# Altium integrated library Logic Gates.IntLib: 15 symbols (part 1 of 2)
Pins are listed as number, name and electrical type; pins without a type are passive.

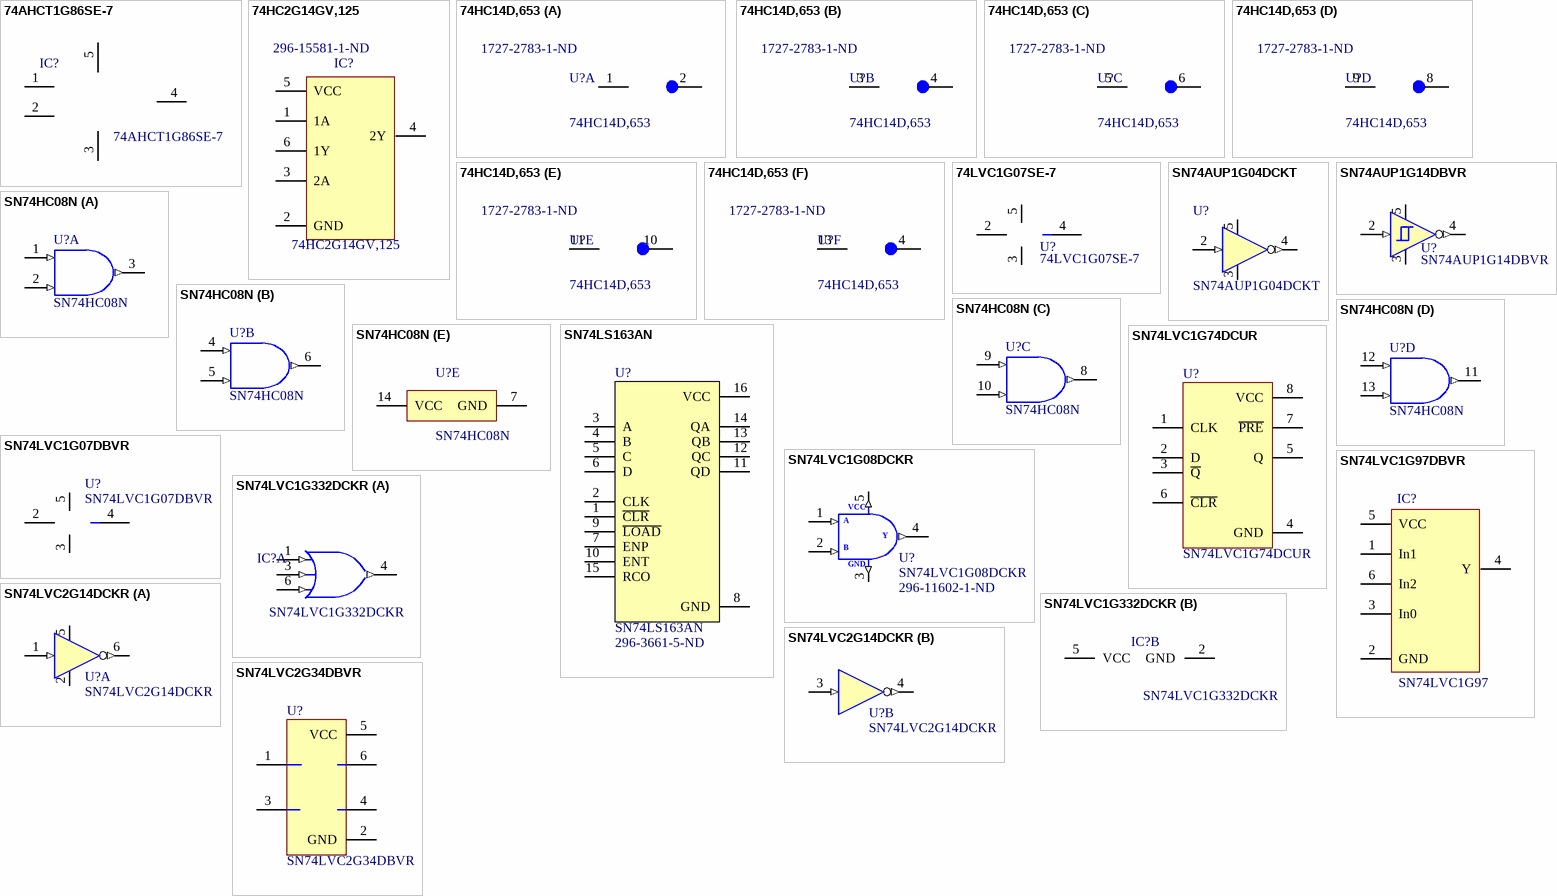
[diagram p0: symbols 74AHCT1G86SE-7 to SN74LVC2G34DBVR]

## 74AHCT1G86SE-7
designator IC?
IC GATE XOR 1CH 2-INP SOT-353; Manufacturer: Diodes Incorporated; Logic Type: XOR (Exclusive OR); Number of Circuits: 1; Number of Inputs: 2; Voltage - Supply: 4.5 V ~ 5.5 V; Current - Quiescent (Max): 1µA; Current - Output High, Low: 8mA, 8mA; Logic Level - Low: 0.8V; Logic Level - High: 2V; Max Propagation Delay @ V, Max CL: 7.9ns @ 5V, 50pF; Supplier 1: Digi-Key; Supplier Part Number 1: 74AHCT1G86SE-7DICT-ND; Manufacturer Part Number: 74AHCT1G86SE-7; RoHS: RoHS Compliant; Category: Integrated Circuits (ICs); Stock 1: 3689; Pricing 1: 1=0.25, 10=0.205, 100=0.1086, 500=0.07142, 1000=0.04866 (USD); Packaging: Cut Tape (CT); Features: -; Operating Temperature: -40°C ~ 125°C; Mounting Type: Surface Mount; Supplier Device Package: SOT-353; Package / Case: 5-TSSOP, SC-70-5, SOT-353; ComponentLink1URL: http://www.diodes.com/_files/datasheets/74AHCT1G86.pdf; ComponentLink1Description: http://www.diodes.com/_files/datasheets/74AHCT1G86.pdf; Value: 74AHCT1G86SE-7
footprint SOT65P197X110-5N (SOT23, 5-Leads, Body 2,00x1,97mm, Pitch 0,65mm, IPC Medium Density)
pins: 1 A, 2 B, 3 GND, 4 Y, 5 VCC

## 74HC2G14GV,125
designator IC?  Supplier Part Number 2: 296-15581-1-ND
IC INVERTER SCHMITT 2CH 6TSOP; Manufacturer: Nexperia; Min Supply Voltage: 1.65V; Max Supply Voltage: 5.5V; Logic Function: Multi Function; Quiescent Current: 10uA; Number of Inputs: 3; Propagation Delay: 6.3ns; Number of Circuits: 1; High Level Output Current: -32mA; Low Level Output Current: 32mA; Number of Input Lines: 2; Schmitt Trigger Input: Yes; Turn-On Delay Time: 6.1ns; Operating Supply Voltage: 5V; Supplier 1: Digi-Key; Manufacturer Part Number: 74HC2G14GV,125; Stock 1: 52335; Pricing 1: 1 = 0,37000, 10 = 0,29800, 25 = 0,27240, 100 = 0,20270, 250 = 0,18372, 500 = 0,15204, 1000 = 0,11403 (USD); RoHS: No; ComponentLink1URL: https://assets.nexperia.com/documents/data-sheet/74HC_HCT2G14.pdf?src-supplier=Digi-Key; ComponentLink1Description: https://assets.nexperia.com/documents/data-sheet/74HC_HCT2G14.pdf?src-supplier=Digi-Key; Supplier Part Number 1: 1727-6046-1-ND; Supplier 2: Digi-Key; Stock 2: 53949; Pricing 2: 1 = 0,38000, 10 = 0,28300, 100 = 0,17610, 500 = 0,12052, 1000 = 0,09270 (USD); Mount: Surface Mount; Case/Package: SOT-23; Number of Pins: 6; Weight: 0.000229oz; Contact Plating: Gold; Min Operating Temperature: -40°C; Max Operating Temperature: 125°C; Packaging: Tape and Reel; Package Quantity: 3000; Number of Gates: 1; Number of Output Lines: 1; Number of Bits: 1; Number of Outputs: 1; Number of Elements: 1; Output Current: 32mA; Max Output Current: 32mA; Termination: SMD/SMT; Length: 2.9mm; Height: 1.15mm; Width: 1.6mm; Radiation Hardening: No; Lead Free: Lead Free; REACH SVHC: No SVHC; ComponentLink2URL: https://datasheet.ciiva.com/34303/2017130-34303874.pdf?src-supplier=Jameco; ComponentLink2Description: https://datasheet.ciiva.com/34303/2017130-34303874.pdf?src-supplier=Jameco; ComponentLink3URL: https://datasheet.ciiva.com/6124/1768118-6124640.pdf?src-supplier=Farnell; ComponentLink3Description: https://datasheet.ciiva.com/6124/1768118-6124640.pdf?src-supplier=Farnell; ComponentLink4URL: https://datasheet.ciiva.com/1880/sn74lvc1g97-1880068.pdf?src-supplier=Digi-Key; ComponentLink4Description: https://datasheet.ciiva.com/1880/sn74lvc1g97-1880068.pdf?src-supplier=Digi-Key; ComponentLink5URL: https://datasheet.ciiva.com/1880/sn74lvc1g97-1880069.pdf?src-supplier=Digi-Key; ComponentLink5Description: https://datasheet.ciiva.com/1880/sn74lvc1g97-1880069.pdf?src-supplier=Digi-Key; ComponentLink6URL: https://datasheet.ciiva.com/7783/1768118-7783605.pdf?src-supplier=Element14; ComponentLink6Description: https://datasheet.ciiva.com/7783/1768118-7783605.pdf?src-supplier=Element14; ComponentLink7URL: https://datasheet.ciiva.com/46398/1885873-46398039.pdf?src-supplier=Element14; ComponentLink7Description: https://datasheet.ciiva.com/46398/1885873-46398039.pdf?src-supplier=Element14; ComponentLink8URL: https://datasheet.ciiva.com/26046/sn74lvc1g97-26046888.pdf?src-supplier=Avnet+Europe; ComponentLink8Description: https://datasheet.ciiva.com/26046/sn74lvc1g97-26046888.pdf?src-supplier=Avnet+Europe; ComponentLink9URL: https://datasheet.ciiva.com/1880/sn74lvc1g97-1880067.pdf?src-supplier=Digi-Key; ComponentLink9Description: https://datasheet.ciiva.com/1880/sn74lvc1g97-1880067.pdf?src-supplier=Digi-Key; ComponentLink10URL: https://datasheet.ciiva.com/7783/1768118-7783606.pdf?src-supplier=Element14; ComponentLink10Description: https://datasheet.ciiva.com/7783/1768118-7783606.pdf?src-supplier=Element14; ComponentLink11URL: https://datasheet.ciiva.com/46395/1885873-46395383.pdf?src-supplier=Element14; ComponentLink11Description: https://datasheet.ciiva.com/46395/1885873-46395383.pdf?src-supplier=Element14; ComponentLink12URL: https://datasheet.ciiva.com/14290/sn74lvc1g97-14290813.pdf?src-supplier=Avnet; ComponentLink12Description: https://datasheet.ciiva.com/14290/sn74lvc1g97-14290813.pdf?src-supplier=Avnet; ComponentLink13URL: https://datasheet.ciiva.com/48702/001075111-da-01-en-ic-config-m-sn74lvc1g97dbvr-sot-23-6-tid-48702378.pdf?src-supplier=Conrad; ComponentLink13Description: https://datasheet.ciiva.com/48702/001075111-da-01-en-ic-config-m-sn74lvc1g97dbvr-sot-23-6-tid-48702378.pdf?src-supplier=Conrad
footprint *SOT95P275X110-6N
pins: 1 1A, 2 GND, 3 2A, 4 2Y, 5 VCC, 6 1Y

## 74HC14D,653
designator U?  Supplier Part Number 1: 1727-2783-1-ND
IC INVERTER SCHMITT 6CH 14SO; Manufacturer: Nexperia; Supplier 1: Digi-Key; Manufacturer Part Number: 74HC14D,653; Stock 1: 130240; Pricing 1: 1 = 0,39000, 10 = 0,29600, 25 = 0,26680, 100 = 0,18430, 250 = 0,15516, 500 = 0,12608, 1000 = 0,09698 (USD); RoHS: No; ComponentLink1URL: http://www.farnell.com/datasheets/2000343.pdf?src-supplier=Farnell; ComponentLink1Description: http://www.farnell.com/datasheets/2000343.pdf?src-supplier=Farnell; ComponentLink2URL: https://assets.nexperia.com/documents/data-sheet/74HC_HCT14.pdf?src-supplier=Digi-Key; ComponentLink2Description: https://assets.nexperia.com/documents/data-sheet/74HC_HCT14.pdf?src-supplier=Digi-Key; ComponentLink3URL: http://www.farnell.com/datasheets/2000343.pdf?src-supplier=Newark; ComponentLink3Description: http://www.farnell.com/datasheets/2000343.pdf?src-supplier=Newark
part A pins: 1 A, 2 A
part B pins: 3 B, 4 B
part C pins: 5 C, 6 C
part D pins: 8 D, 9 D
part E pins: 10 E, 11 E
part F pins: 4 B, 13 B

## 74LVC1G07SE-7
designator U?
74LVC Series 5.5 V Surface Mount Single Buffer with Open Drain Output - SOT-353; Manufacturer: Diodes; Number of Gates: 1; Max Supply Voltage: 5.5V; Min Supply Voltage: 1.65V; Propagation Delay: 3ns; Logic Function: Buffer,Inverting; Polarity: Inverting,Non-Inverting; Low Level Output Current: 32mA; Operating Supply Current: 10uA; Turn-On Delay Time: 8.5ns; Quiescent Current: 200uA; Supplier: Digikey; Supplier Part Number: 74LVC1G07SE-7DICT-ND; Manufacturer Part Number: 74LVC1G07SE-7; RoHS: Yes; Category: Logic Gates; Stock: 31141; Pricing: 1=0,28, 10=0,228, 25=0,1908, 100=0,1209, 250=0,09332, 500=0,07954, 1000=0,05409 (USD); Mounting Technology: Surface Mount; Case/Package: SOT-353; Pins: 5; Min Operating Temperature: -40°C; Max Operating Temperature: 85°C; Number of Inputs: 1; Packaging: Tape and Reel; Package Quantity: 3000; Number of Elements: 1; Number of Channels: 1; Number of Outputs: 1; Number of Input Lines: 1; Number of Output Lines: 1; Number of Bits per Element: 1; Series: 74LVC; Technology: CMOS; Length: 2.2mm; Width: 1.35mm; Height: 1mm; Radiation Hardening: No; Reach SVHC Compliant: No; Lead Free: Lead Free; RoHS Compliant: Yes; ComponentLink1URL: https://datasheet.ciiva.com/8260/74lvc1g07-8260976.pdf?src-supplier=Avnet; ComponentLink1Description: https://datasheet.ciiva.com/8260/74lvc1g07-8260976.pdf?src-supplier=Avnet; ComponentLink2URL: https://datasheet.ciiva.com/26856/getdatasheetpartid-302086-26856250.pdf?src-supplier=Verical; ComponentLink2Description: https://datasheet.ciiva.com/26856/getdatasheetpartid-302086-26856250.pdf?src-supplier=Verical; ComponentLink3URL: https://datasheet.ciiva.com/8305/74lvc1g07-8305775.pdf?src-supplier=Avnet; ComponentLink3Description: https://datasheet.ciiva.com/8305/74lvc1g07-8305775.pdf?src-supplier=Avnet; ComponentLink4URL: https://datasheet.ciiva.com/1506/74lvc1g07-1506202.pdf?src-supplier=Element14; ComponentLink4Description: https://datasheet.ciiva.com/1506/74lvc1g07-1506202.pdf?src-supplier=Element14; ComponentLink5URL: https://datasheet.ciiva.com/1832/74lvc1g07-1832566.pdf?src-supplier=Digikey; ComponentLink5Description: https://datasheet.ciiva.com/1832/74lvc1g07-1832566.pdf?src-supplier=Digikey; ComponentLink6URL: https://datasheet.ciiva.com/1832/74lvc1g07-1832567.pdf?src-supplier=Digikey; ComponentLink6Description: https://datasheet.ciiva.com/1832/74lvc1g07-1832567.pdf?src-supplier=Digikey; ComponentLink7URL: https://datasheet.ciiva.com/1832/74lvc1g07-1832568.pdf?src-supplier=Digikey; ComponentLink7Description: https://datasheet.ciiva.com/1832/74lvc1g07-1832568.pdf?src-supplier=Digikey
footprint SOT65P210X100-5N (SOT23, 5-Leads, Body 2,00x2,10mm, Pitch 0,65mm, IPC Medium Density)
pins: 2 A, 3 A, 4 A, 5 A

## SN74AUP1G04DCKT
designator U?
IC INVERTER 1CH 1-INP SC70-5; Manufacturer 1: Texas Instruments; Output Current: 4mA; Number of Inputs: 1; Min Supply Voltage: 800mV; Max Supply Voltage: 3.6V; Logic Function: Buffer,Inverter; Propagation Delay: 19ns; Quiescent Current: 500nA; High Level Output Current: -4mA; Turn-On Delay Time: 5.4ns; Schmitt Trigger Input: No; Supplier 1: Digi-Key; Manufacturer Part Number 1: SN74AUP1G04DCKT; Stock 1: 1210; Pricing 1: 1=0,84000, 10=0,73900, 25=0,69440, 100=0,56670 (USD); RoHS: Yes; Mount: Surface Mount; Case/Package: SC; Number of Pins: 5; Weight: 8.8E-05oz; Min Operating Temperature: -40°C; Max Operating Temperature: 85°C; Max Output Current: 4mA; Packaging: Tape and Reel; Number of Elements: 1; Package Quantity: 1; Number of Circuits: 1; Low Level Output Current: 4mA; Termination: SMD/SMT; Number of Gates: 1; Number of Bits: 1; Length: 2mm; Height: 0.9mm; Width: 1.25mm; Radiation Hardening: No; REACH SVHC: No SVHC; Lead Free: Lead Free; ComponentLink1URL: https://datasheet.ciiva.com/4219/1085sn74aup1g04-4219910.pdf?src-supplier=Arrow; ComponentLink1Description: https://datasheet.ciiva.com/4219/1085sn74aup1g04-4219910.pdf?src-supplier=Arrow; ComponentLink2URL: https://datasheet.ciiva.com/15088/getdatasheetpartid-29642-15088984.pdf?src-supplier=Verical; ComponentLink2Description: https://datasheet.ciiva.com/15088/getdatasheetpartid-29642-15088984.pdf?src-supplier=Verical; ComponentLink3URL: https://datasheet.ciiva.com/41457/001016492-da-01-en-ic-sgl-lp-sn74-sn74aup1g04dckt-sot-5-tid-41457121.pdf?src-supplier=Conrad; ComponentLink3Description: https://datasheet.ciiva.com/41457/001016492-da-01-en-ic-sgl-lp-sn74-sn74aup1g04dckt-sot-5-tid-41457121.pdf?src-supplier=Conrad; ComponentLink4URL: https://datasheet.ciiva.com/14288/sn74aup1g04-14288794.pdf?src-supplier=Avnet; ComponentLink4Description: https://datasheet.ciiva.com/14288/sn74aup1g04-14288794.pdf?src-supplier=Avnet; ComponentLink5URL: https://datasheet.ciiva.com/7783/1722694-7783277.pdf?src-supplier=Element14; ComponentLink5Description: https://datasheet.ciiva.com/7783/1722694-7783277.pdf?src-supplier=Element14; ComponentLink6URL: https://datasheet.ciiva.com/7783/1722694-7783278.pdf?src-supplier=Element14; ComponentLink6Description: https://datasheet.ciiva.com/7783/1722694-7783278.pdf?src-supplier=Element14; ComponentLink7URL: https://datasheet.ciiva.com/6619/sn74aup1g04-6619743.pdf?src-supplier=Digi-Key; ComponentLink7Description: https://datasheet.ciiva.com/6619/sn74aup1g04-6619743.pdf?src-supplier=Digi-Key; Value: SN74AUP1G04DCKT; Supplier Part Number 1: 296-32254-1-ND
footprint SC70-5
pins: 2 A (in), 3 GND, 4 Y (out), 5 VCC

## SN74AUP1G14DBVR
designator U?
Single 0.8-V to 3.6-V low power inverter with Schmitt-Trigger inputs 5-SOT-23 -40 to 85; Manufacturer: Texas Instruments; Number of Elements: 1; Propagation Delay: 20.5ns; Max Supply Voltage: 3.6V; Min Supply Voltage: 800mV; Output Current: 4mA; Logic Function: Buffer,Inverter,Schmitt Trigger; Quiescent Current: 500nA; High Level Output Current: -4mA; Turn-On Delay Time: 6.2ns; Input Type: SCHMITT TRIGGER; Supplier: Digikey; Supplier Part Number: 296-18213-1-ND; Manufacturer Part Number: SN74AUP1G14DBVR; RoHS: Yes; Category: Logic Gates; Stock: 16290; Pricing: 1=0,2, 10=0,135, 25=0,1188, 100=0,1011, 250=0,09268, 500=0,08764, 1000=0,08348 (USD); Mounting Technology: Surface Mount; Case/Package: SOT-23; Pins: 5; Weight: 0.000395oz; Min Operating Temperature: -40°C; Max Operating Temperature: 85°C; Package Quantity: 1; Number of Inputs: 1; Packaging: Tape and Reel; Number of Circuits: 1; Low Level Output Current: 4mA; Number of Gates: 1; Number of Bits: 1; Series: 74AUP; Technology: CMOS; Radiation Hardening: No; Reach SVHC Compliant: No; Lead Free: Lead Free; RoHS Compliant: Yes; ComponentLink1URL: https://datasheet.ciiva.com/1864/sn74aup1g14-1864808.pdf?src-supplier=Digikey; ComponentLink1Description: https://datasheet.ciiva.com/1864/sn74aup1g14-1864808.pdf?src-supplier=Digikey; ComponentLink2URL: https://datasheet.ciiva.com/1864/sn74aup1g14-1864809.pdf?src-supplier=Digikey; ComponentLink2Description: https://datasheet.ciiva.com/1864/sn74aup1g14-1864809.pdf?src-supplier=Digikey; ComponentLink3URL: https://datasheet.ciiva.com/1864/sn74aup1g14-1864810.pdf?src-supplier=Digikey; ComponentLink3Description: https://datasheet.ciiva.com/1864/sn74aup1g14-1864810.pdf?src-supplier=Digikey; ComponentLink4URL: https://datasheet.ciiva.com/14290/sn74aup1g14-14290342.pdf?src-supplier=Avnet; ComponentLink4Description: https://datasheet.ciiva.com/14290/sn74aup1g14-14290342.pdf?src-supplier=Avnet; ComponentLink5URL: https://datasheet.ciiva.com/48702/001073349-da-01-en-ic-sngl-sch-sn74aup1g14dbvr-sot-23-5-tid-48702901.pdf?src-supplier=Conrad; ComponentLink5Description: https://datasheet.ciiva.com/48702/001073349-da-01-en-ic-sngl-sch-sn74aup1g14dbvr-sot-23-5-tid-48702901.pdf?src-supplier=Conrad
footprint SOT95P280X145-5N (SOT23, 5-Leads, Body 2,90x2,80mm, Pitch 0,95mm, IPC Medium Density)
pins: 2 A (in), 3 GND, 4 Y (out), 5 VCC

## SN74HC08N
designator U?
TEXAS INSTRUMENTS - SN74HC08N - IC, QUAD 2-INPUT AND, 74HC08, DIP14; Number of Bits: 4; Schmitt Trigger Input: No; Number of Input Lines: 2; Number of Output Lines: 1; Low Level Output Current: 5.2mA; Quiescent Current: 2uA; High Level Output Current: -5.2mA; Turn-On Delay Time: 21ns; Operating Supply Voltage: 5V; Max Supply Voltage: 6V; Min Supply Voltage: 2V; Max Output Current: 4mA; Supplier 1: Digi-Key; Manufacturer 1: Texas Instruments; Manufacturer Part Number 1: SN74HC08N; RoHS: Yes; Category: Logic Gates; Stock 1: 5266; Pricing 1: 1=0,39000, 10=0,33800, 25=0,31520, 100=0,25200, 250=0,23400, 500=0,19800, 1000=0,15300, 2500=0,13950, 5000=0,13050 (USD); Mount: Through Hole; Case/Package: PDIP; Number of Pins: 14; Weight: 0.032734oz; Contact Plating: Gold; Min Operating Temperature: -40°C; Max Operating Temperature: 85°C; Number of Gates: 4; Number of Circuits: 4; Propagation Delay: 21ns; Packaging: Rail/Tube; Number of Outputs: 1; Output Current: 5.2mA; Number of Inputs: 2; Logic Function: AND; Number of Elements: 4; Package Quantity: 25; Length: 19.3mm; Height: 4.57mm; Width: 6.35mm; Radiation Hardening: No; REACH SVHC: No SVHC; Lead Free: Lead Free; ComponentLink1URL: https://datasheet.ciiva.com/26048/sn54hc08-sp-26048288.pdf?src-supplier=Avnet+Europe; ComponentLink1Description: https://datasheet.ciiva.com/26048/sn54hc08-sp-26048288.pdf?src-supplier=Avnet+Europe; ComponentLink2URL: https://datasheet.ciiva.com/41457/001016637-da-01-en-ic-qua-2in-and-g-s-sn74hc08n-pdip-14-tid-41457005.pdf?src-supplier=Conrad; ComponentLink2Description: https://datasheet.ciiva.com/41457/001016637-da-01-en-ic-qua-2in-and-g-s-sn74hc08n-pdip-14-tid-41457005.pdf?src-supplier=Conrad; ComponentLink3URL: https://datasheet.ciiva.com/1865/sn74hc08-1865974.pdf?src-supplier=Digi-Key; ComponentLink3Description: https://datasheet.ciiva.com/1865/sn74hc08-1865974.pdf?src-supplier=Digi-Key; ComponentLink4URL: https://datasheet.ciiva.com/14290/sn54hc08-sp-14290524.pdf?src-supplier=Avnet; ComponentLink4Description: https://datasheet.ciiva.com/14290/sn54hc08-sp-14290524.pdf?src-supplier=Avnet; Value: SN74HC08N; Supplier Part Number 1: 296-1570-5-ND
footprint D14D (DIP, 14-Pin, Row Spacing 7.62 mm, Pitch 2.54 mm)
part A pins: 1 1A (in), 2 1B (in), 3 1Y (out)
part B pins: 4 2A (in), 5 2B (in), 6 2Y (out)
part C pins: 8 3Y (out), 9 3A (in), 10 3B (in)
part D pins: 11 4Y (out), 12 4A (in), 13 4B (in)
part E pins: 7 GND, 14 VCC

## SN74LS163AN
designator U?  Supplier Part Number 1: 296-3661-5-ND
Counter; N Package; PDIP; 7 V; 18 mA (Typ.); 2 V; 0.8 V; 3.4 V (Typ.); Manufacturer: Texas Instruments; Number of Bits: 4; Frequency: 32MHz; Nominal Supply Current: 18mA; Operating Supply Voltage: 5V; Propagation Delay: 35ns; Min Supply Voltage: 4.75V; Max Supply Voltage: 5.25V; Number of Elements: 1; Direction: Up,Unidirectional; Reset: Synchronous; Clock Edge Trigger Type: Positive Edge; Supplier 1: Digi-Key; Manufacturer Part Number: SN74LS163AN; RoHS: Yes; Category: Counters; Stock 1: 2261; Pricing 1: 1=0,9, 10=0,79, 25=0,7416, 100=0,6053, 250=0,56224, 500=0,4785, 1000=0,3828, 2500=0,34691, 5000=0,32299 (USD); Mount: Through Hole; Case/Package: PDIP; Number of Pins: 16; Weight: 0.03357oz; Min Operating Temperature: 0°C; Max Operating Temperature: 70°C; Packaging: Rail/Tube; Package Quantity: 25; Number of Bits per Element: 4; Logic Function: Counter; Turn-On Delay Time: 35ns; Sync/Async: Synchronous; Series: 74LS; Technology: BIPOLAR; Radiation Hardening: No; Reach SVHC Compliant: No; Lead Free: Contains Lead; RoHS Compliant: Yes; ComponentLink1URL: https://datasheet.ciiva.com/14134/ky645656-14134031.pdf?src-supplier=Distrelec; ComponentLink1Description: https://datasheet.ciiva.com/14134/ky645656-14134031.pdf?src-supplier=Distrelec; ComponentLink2URL: https://datasheet.ciiva.com/1621/sn74ls161a-1621901.pdf?src-supplier=Newark; ComponentLink2Description: https://datasheet.ciiva.com/1621/sn74ls161a-1621901.pdf?src-supplier=Newark; ComponentLink3URL: https://datasheet.ciiva.com/15093/getdatasheetpartid-251218-15093660.pdf?src-supplier=Verical; ComponentLink3Description: https://datasheet.ciiva.com/15093/getdatasheetpartid-251218-15093660.pdf?src-supplier=Verical; ComponentLink4URL: https://datasheet.ciiva.com/29296/169587-da-01-en-ic-sn-74-ls-163-an-dip16-tid-29296910.pdf?src-supplier=Conrad; ComponentLink4Description: https://datasheet.ciiva.com/29296/169587-da-01-en-ic-sn-74-ls-163-an-dip16-tid-29296910.pdf?src-supplier=Conrad; ComponentLink5URL: https://datasheet.ciiva.com/1507/1764235-1507035.pdf?src-supplier=Element14; ComponentLink5Description: https://datasheet.ciiva.com/1507/1764235-1507035.pdf?src-supplier=Element14; ComponentLink6URL: https://datasheet.ciiva.com/1848/sn74ls163a-1848888.pdf?src-supplier=Digi-Key; ComponentLink6Description: https://datasheet.ciiva.com/1848/sn74ls163a-1848888.pdf?src-supplier=Digi-Key
footprint TI-N16 (DIP, 16-Leads, Body 19.305x6.35 mm, Pitch 2.54 mm)
pins: 1 ~{CLR}, 2 CLK, 3 A, 4 B, 5 C, 6 D, 7 ENP, 8 GND, 9 ~{LOAD}, 10 ENT, 11 QD, 12 QC, 13 QB, 14 QA, 15 RCO, 16 VCC

## SN74LVC1G07DBVR
designator U?
Single 1.65-V to 5.5-V buffer with open-drain outputs 5-SOT-23 -40 to 125; Manufacturer: Texas Instruments; Manufacturer Lifecycle Status: ACTIVE; High Level Output Current: 32mA; Logic Function: Buffer, Inverting; Max Junction Temperature (Tj): 150°C; Max Supply Voltage: 5.5V; Min Supply Voltage: 1.65V; Number of Bits: 1; Polarity: Non-Inverting; Propagation Delay: 8.3ns; Quiescent Current: 10µA; Schmitt Trigger Input: No; Supplier: DigiKey; Supplier Part Number: 296-8485-1-ND; Manufacturer Part Number: SN74LVC1G07DBVR; RoHS: Compliant; Category: Buffers, Drivers and Transceivers; Stock: 98921; Pricing: 1=0,12, 10=0,082, 25=0,0716, 100=0,0602, 250=0,05484, 500=0,05162, 1000=0,04896 (USD); Case/Package: SOT-23; Contact Plating: Tin; Height: 1.45mm; Lead Free: Lead Free; Length: 2.9mm; Lifecycle Status: Production; Low Level Output Current: 32mA; Max Operating Temperature: 125°C; Min Operating Temperature: -40°C; Mounting Technology: Surface Mount; Nominal Supply Current: 32mA; Number of Bits per Element: 1; Number of Channels: 1; Number of Elements: 1; Number of Gates: 1; Number of Input Lines: 1; Number of Inputs: 1; Number of Output Lines: 1; Number of Outputs: 1; Pins: 5; Packaging: Cut Tape; Radiation Hardening: No; REACH SVHC: No; Schedule B: 8542390000, 8542390000|8542390000|8542390000|8542390000|8542390000; Termination: SMD/SMT; Thickness: 1.2mm; Turn-On Delay Time: 8.3ns; Width: 1.6mm; ComponentLink1URL: https://sigma.octopart.com:443/177332311/technical_drawing/Texas-Instruments-SN74LVC1G07DBVR.pdf?src-supplier=Texas+Instruments; ComponentLink1Description: https://sigma.octopart.com:443/177332311/technical_drawing/Texas-Instruments-SN74LVC1G07DBVR.pdf?src-supplier=Texas+Instruments; ComponentLink2URL: https://octopart.com:443/opatz8j6/c1?t=j2kUoeLgu9yt2wK_HxpTl6wRyETCEuyr-RdCfZyL8rgkl96Gszv8zdI8mwJ-EdrGq_m3hSeoitGL-Nw7vjxPcxGeR3icOQy-4Smj2QV9Z0DcXfEpwE3DZNExeJFqc1mG9Z2r_YoGJBF-YwyjYdTv9x5DWbrNimWNHu7aqtkRVsPdcyUYZHr4DTlqV7vswsSsjbNoGN1o5_kx4PbbdndBDR2cCu-fD58ja7DGm9VlvCzz_6bEq8sImpUwaYhTZYSRX-v9ceyqyTtGp_tnfHgr4GsJHC77qYMa9ep-roUMGhtQKXh2aDB5PKDdtP9Lmw31p9nXq5Gg06zu-7rs9ivFpX-u5LR7BgjyfGpnr-OUBaeSqRT8h_lRHPljZ6fXBopCFx_5tnv1Pg&src-supplier=Texas+Instruments; ComponentLink2Description: https://octopart.com:443/opatz8j6/c1?t=j2kUoeLgu9yt2wK_HxpTl6wRyETCEuyr-RdCfZyL8rgkl96Gszv8zdI8mwJ-EdrGq_m3hSeoitGL-Nw7vjxPcxGeR3icOQy-4Smj2QV9Z0DcXfEpwE3DZNExeJFqc1mG9Z2r_YoGJBF-YwyjYdTv9x5DWbrNimWNHu7aqtkRVsPdcyUYZHr4DTlqV7vswsSsjbNoGN1o5_kx4PbbdndBDR2cCu-fD58ja7DGm9VlvCzz_6bEq8sImpUwaYhTZYSRX-v9ceyqyTtGp_tnfHgr4GsJHC77qYMa9ep-roUMGhtQKXh2aDB5PKDdtP9Lmw31p9nXq5Gg06zu-7rs9ivFpX-u5LR7BgjyfGpnr-OUBaeSqRT8h_lRHPljZ6fXBopCFx_5tnv1Pg&src-supplier=Texas+Instruments; ComponentLink3URL: https://sigma.octopart.com:443/175570406/technical_drawing/Texas-Instruments-SN74LVC1G07DBVR.pdf?src-supplier=Texas+Instruments; ComponentLink3Description: https://sigma.octopart.com:443/175570406/technical_drawing/Texas-Instruments-SN74LVC1G07DBVR.pdf?src-supplier=Texas+Instruments; ComponentLink4URL: https://sigma.octopart.com:443/169406034/technical_drawing/Texas-Instruments-SN74LVC1G07DBVR.pdf?src-supplier=Texas+Instruments; ComponentLink4Description: https://sigma.octopart.com:443/169406034/technical_drawing/Texas-Instruments-SN74LVC1G07DBVR.pdf?src-supplier=Texas+Instruments; ComponentLink5URL: https://sigma.octopart.com:443/155939316/technical_drawing/Texas-Instruments-SN74LVC1G07DBVR.pdf?src-supplier=Texas+Instruments; ComponentLink5Description: https://sigma.octopart.com:443/155939316/technical_drawing/Texas-Instruments-SN74LVC1G07DBVR.pdf?src-supplier=Texas+Instruments; ComponentLink6URL: https://sigma.octopart.com:443/102331370/technical_drawing/Texas-Instruments-SN74LVC1G07DBVR.pdf?src-supplier=Texas+Instruments; ComponentLink6Description: https://sigma.octopart.com:443/102331370/technical_drawing/Texas-Instruments-SN74LVC1G07DBVR.pdf?src-supplier=Texas+Instruments; ComponentLink7URL: https://sigma.octopart.com:443/49249325/technical_drawing/Texas-Instruments-SN74LVC1G07DBVR.pdf?src-supplier=Texas+Instruments; ComponentLink7Description: https://sigma.octopart.com:443/49249325/technical_drawing/Texas-Instruments-SN74LVC1G07DBVR.pdf?src-supplier=Texas+Instruments; ComponentLink8URL: https://datasheet.octopart.com:443/SN74LVC1G07DBVR-Texas-Instruments-datasheet-25356048.pdf?src-supplier=Texas+Instruments; ComponentLink8Description: https://datasheet.octopart.com:443/SN74LVC1G07DBVR-Texas-Instruments-datasheet-25356048.pdf?src-supplier=Texas+Instruments; ComponentLink9URL: https://datasheet.octopart.com:443/SN74LVC1G07DBVR-Texas-Instruments-datasheet-24565342.pdf?src-supplier=Texas+Instruments; ComponentLink9Description: https://datasheet.octopart.com:443/SN74LVC1G07DBVR-Texas-Instruments-datasheet-24565342.pdf?src-supplier=Texas+Instruments; ComponentLink10URL: https://datasheet.octopart.com:443/SN74LVC1G07DBVR-Texas-Instruments-datasheet-16941355.pdf?src-supplier=Texas+Instruments; ComponentLink10Description: https://datasheet.octopart.com:443/SN74LVC1G07DBVR-Texas-Instruments-datasheet-16941355.pdf?src-supplier=Texas+Instruments; ComponentLink11URL: https://datasheet.octopart.com:443/SN74LVC1G07DBVR-Texas-Instruments-datasheet-13040538.pdf?src-supplier=Texas+Instruments; ComponentLink11Description: https://datasheet.octopart.com:443/SN74LVC1G07DBVR-Texas-Instruments-datasheet-13040538.pdf?src-supplier=Texas+Instruments; ComponentLink12URL: https://datasheet.octopart.com:443/SN74LVC1G07DBVR-Texas-Instruments-datasheet-10899237.pdf?src-supplier=Texas+Instruments; ComponentLink12Description: https://datasheet.octopart.com:443/SN74LVC1G07DBVR-Texas-Instruments-datasheet-10899237.pdf?src-supplier=Texas+Instruments; ComponentLink13URL: https://datasheet.octopart.com:443/SN74LVC1G07DBVR-Texas-Instruments-datasheet-153181.pdf?src-supplier=Texas+Instruments; ComponentLink13Description: https://datasheet.octopart.com:443/SN74LVC1G07DBVR-Texas-Instruments-datasheet-153181.pdf?src-supplier=Texas+Instruments; ComponentLink14URL: https://datasheet.octopart.com:443/SN74LVC1G07DBVR-Texas-Instruments-datasheet-10852091.pdf?src-supplier=Upverter; ComponentLink14Description: https://datasheet.octopart.com:443/SN74LVC1G07DBVR-Texas-Instruments-datasheet-10852091.pdf?src-supplier=Upverter; ComponentLink15URL: https://datasheet.octopart.com:443/SN74LVC1G07DBVR-Texas-Instruments-datasheet-65713477.pdf?src-supplier=Farnell; ComponentLink15Description: https://datasheet.octopart.com:443/SN74LVC1G07DBVR-Texas-Instruments-datasheet-65713477.pdf?src-supplier=Farnell; ComponentLink16URL: https://datasheet.octopart.com:443/SN74LVC1G07DBVR-Texas-Instruments-datasheet-8500040.pdf?src-supplier=Farnell; ComponentLink16Description: https://datasheet.octopart.com:443/SN74LVC1G07DBVR-Texas-Instruments-datasheet-8500040.pdf?src-supplier=Farnell; ComponentLink17URL: https://datasheet.octopart.com:443/SN74LVC1G07DBVR-Texas-Instruments-datasheet-5328147.pdf?src-supplier=Farnell; ComponentLink17Description: https://datasheet.octopart.com:443/SN74LVC1G07DBVR-Texas-Instruments-datasheet-5328147.pdf?src-supplier=Farnell; ComponentLink18URL: https://datasheet.octopart.com:443/SN74LVC1G07DBVR.-Texas-Instruments-datasheet-37730384.pdf?src-supplier=Farnell; ComponentLink18Description: https://datasheet.octopart.com:443/SN74LVC1G07DBVR.-Texas-Instruments-datasheet-37730384.pdf?src-supplier=Farnell; ComponentLink19URL: https://datasheet.octopart.com:443/SN74LVC1G07DBVR.-Texas-Instruments-datasheet-62115996.pdf?src-supplier=Farnell; ComponentLink19Description: https://datasheet.octopart.com:443/SN74LVC1G07DBVR.-Texas-Instruments-datasheet-62115996.pdf?src-supplier=Farnell; ComponentLink20URL: https://datasheet.octopart.com:443/SN74LVC1G07DBVR-Texas-Instruments-datasheet-8639855.pdf?src-supplier=Farnell; ComponentLink20Description: https://datasheet.octopart.com:443/SN74LVC1G07DBVR-Texas-Instruments-datasheet-8639855.pdf?src-supplier=Farnell; ComponentLink21URL: https://datasheet.octopart.com:443/SN74LVC1G07DBVR-Texas-Instruments-datasheet-7542397.pdf?src-supplier=Farnell; ComponentLink21Description: https://datasheet.octopart.com:443/SN74LVC1G07DBVR-Texas-Instruments-datasheet-7542397.pdf?src-supplier=Farnell; ComponentLink22URL: https://datasheet.octopart.com:443/SN74LVC1G07DBVR-Texas-Instruments-datasheet-5391920.pdf?src-supplier=Farnell; ComponentLink22Description: https://datasheet.octopart.com:443/SN74LVC1G07DBVR-Texas-Instruments-datasheet-5391920.pdf?src-supplier=Farnell; ComponentLink23URL: https://datasheet.octopart.com:443/SN74LVC1G07DBVR-Texas-Instruments-datasheet-509529.pdf?src-supplier=Farnell; ComponentLink23Description: https://datasheet.octopart.com:443/SN74LVC1G07DBVR-Texas-Instruments-datasheet-509529.pdf?src-supplier=Farnell; ComponentLink24URL: https://datasheet.octopart.com:443/SN74LVC1G07DBVR-Texas-Instruments-datasheet-33018797.pdf?src-supplier=element14+APAC; ComponentLink24Description: https://datasheet.octopart.com:443/SN74LVC1G07DBVR-Texas-Instruments-datasheet-33018797.pdf?src-supplier=element14+APAC; ComponentLink25URL: https://datasheet.octopart.com:443/SN74LVC1G07DBVR-Texas-Instruments-datasheet-33002.pdf?src-supplier=Sierra+IC; ComponentLink25Description: https://datasheet.octopart.com:443/SN74LVC1G07DBVR-Texas-Instruments-datasheet-33002.pdf?src-supplier=Sierra+IC; ComponentLink26URL: https://datasheet.octopart.com:443/SN74LVC1G07DBVR-Texas-Instruments-datasheet-165804489.pdf?src-supplier=LCSC; ComponentLink26Description: https://datasheet.octopart.com:443/SN74LVC1G07DBVR-Texas-Instruments-datasheet-165804489.pdf?src-supplier=LCSC; ComponentLink27URL: https://datasheet.octopart.com:443/SN74LVC1G07DBVR-Texas-Instruments-datasheet-159116621.pdf?src-supplier=LCSC; ComponentLink27Description: https://datasheet.octopart.com:443/SN74LVC1G07DBVR-Texas-Instruments-datasheet-159116621.pdf?src-supplier=LCSC; ComponentLink28URL: https://datasheet.octopart.com:443/SN74LVC1G07DBVR-Texas-Instruments-datasheet-164417647.pdf?src-supplier=SHENGYU+ELECTRONICS; ComponentLink28Description: https://datasheet.octopart.com:443/SN74LVC1G07DBVR-Texas-Instruments-datasheet-164417647.pdf?src-supplier=SHENGYU+ELECTRONICS; ComponentLink29URL: https://datasheet.octopart.com:443/SN74LVC1G07DBVR-Texas-Instruments-datasheet-137316104.pdf?src-supplier=Future+Electronics; ComponentLink29Description: https://datasheet.octopart.com:443/SN74LVC1G07DBVR-Texas-Instruments-datasheet-137316104.pdf?src-supplier=Future+Electronics; ComponentLink30URL: https://datasheet.octopart.com:443/SN74LVC1G07DBVR-Texas-Instruments-datasheet-37140337.pdf?src-supplier=Newark; ComponentLink30Description: https://datasheet.octopart.com:443/SN74LVC1G07DBVR-Texas-Instruments-datasheet-37140337.pdf?src-supplier=Newark; ComponentLink31URL: https://datasheet.octopart.com:443/SN74LVC1G07DBVR-Texas-Instruments-datasheet-43176.pdf?src-supplier=Newark; ComponentLink31Description: https://datasheet.octopart.com:443/SN74LVC1G07DBVR-Texas-Instruments-datasheet-43176.pdf?src-supplier=Newark; ComponentLink32URL: https://datasheet.octopart.com:443/SN74LVC1G07DBVR-Texas-Instruments-datasheet-14144452.pdf?src-supplier=iiiC; ComponentLink32Description: https://datasheet.octopart.com:443/SN74LVC1G07DBVR-Texas-Instruments-datasheet-14144452.pdf?src-supplier=iiiC; ComponentLink33URL: https://datasheet.octopart.com:443/SN74LVC1G07DBVR-Texas-Instruments-datasheet-153551.pdf?src-supplier=Mouser; ComponentLink33Description: https://datasheet.octopart.com:443/SN74LVC1G07DBVR-Texas-Instruments-datasheet-153551.pdf?src-supplier=Mouser; ComponentLink34URL: https://datasheet.octopart.com:443/SN74LVC1G07DBVR-Texas-Instruments-datasheet-8441500.pdf?src-supplier=Jameco; ComponentLink34Description: https://datasheet.octopart.com:443/SN74LVC1G07DBVR-Texas-Instruments-datasheet-8441500.pdf?src-supplier=Jameco; ComponentLink35URL: http://sigma.octopart.com:80/reach_statement/Texas-Instruments-company-64.pdf?src-supplier=Compliance+Statements; ComponentLink35Description: http://sigma.octopart.com:80/reach_statement/Texas-Instruments-company-64.pdf?src-supplier=Compliance+Statements; ComponentLink36URL: http://sigma.octopart.com:80/conflict_mineral_statement/Texas-Instruments-company-63.pdf?src-supplier=Compliance+Statements; ComponentLink36Description: http://sigma.octopart.com:80/conflict_mineral_statement/Texas-Instruments-company-63.pdf?src-supplier=Compliance+Statements
footprint SOT95P280X145-5N (SOT23, 5-Leads, Body 2,90x2,80mm, Pitch 0,95mm, IPC Medium Density)
pins: 2 A, 3 A, 4 A, 5 A

## SN74LVC1G08DCKR
designator U?  Supplier Part Number 1: 296-11602-1-ND
AND Gate IC 1 Channel  SC-70-5; Manufacturer: Texas Instruments; Min Supply Voltage: 1.65V; Max Supply Voltage: 5.5V; Propagation Delay: 4ns; Output Current: 32mA; Number of Inputs: 2; Number of Outputs: 1; Quiescent Current: 10uA; High Level Output Current: -32mA; Turn-On Delay Time: 4.5ns; Schmitt Trigger Input: No; Supplier 1: Digi-Key; Manufacturer Part Number: SN74LVC1G08DCKR; RoHS: Yes; Category: Logic Gates; Stock 1: 97038; Pricing 1: 1=0,35, 10=0,29, 25=0,2432, 100=0,1539, 250=0,1188, 500=0,10124, 1000=0,06885 (USD); Mount: Surface Mount; Case/Package: SC; Number of Pins: 5; Weight: 8.8E-05oz; Min Operating Temperature: -40°C; Max Operating Temperature: 125°C; Logic Function: AND GATE; Packaging: Tape and Reel; Max Output Current: 32mA; Number of Gates: 1; Number of Input Lines: 2; Number of Output Lines: 1; Low Level Output Current: 32mA; Number of Circuits: 1; Number of Elements: 1; Termination: SMD/SMT; Number of Bits: 1; Series: 74LVC; Technology: CMOS; Length: 2.15mm; Width: 1.4mm; Height: 1mm; Radiation Hardening: No; Reach SVHC Compliant: No; Lead Free: Lead Free; RoHS Compliant: Yes; ComponentLink1URL: https://datasheet.ciiva.com/28540/1772545-28540798.pdf?src-supplier=Element14; ComponentLink1Description: https://datasheet.ciiva.com/28540/1772545-28540798.pdf?src-supplier=Element14; ComponentLink2URL: https://datasheet.ciiva.com/1864/sn74lvc1g08-1864342.pdf?src-supplier=Digi-Key; ComponentLink2Description: https://datasheet.ciiva.com/1864/sn74lvc1g08-1864342.pdf?src-supplier=Digi-Key; ComponentLink3URL: https://datasheet.ciiva.com/1864/sn74lvc1g08-1864341.pdf?src-supplier=Digi-Key; ComponentLink3Description: https://datasheet.ciiva.com/1864/sn74lvc1g08-1864341.pdf?src-supplier=Digi-Key; ComponentLink4URL: https://datasheet.ciiva.com/1864/sn74lvc1g08-1864343.pdf?src-supplier=Digi-Key; ComponentLink4Description: https://datasheet.ciiva.com/1864/sn74lvc1g08-1864343.pdf?src-supplier=Digi-Key; ComponentLink5URL: https://datasheet.ciiva.com/14290/sn74lvc1g08-14290717.pdf?src-supplier=Avnet; ComponentLink5Description: https://datasheet.ciiva.com/14290/sn74lvc1g08-14290717.pdf?src-supplier=Avnet
footprint SOT65P210X110-5N (SOT23, 5-Leads, Body 2,00x2,10mm, Pitch 0,65mm, IPC Medium Density)
pins: 1 A (in), 2 B (in), 3 GND (out), 4 Y (out), 5 VCC (out)

## SN74LVC1G74DCUR
designator U?
Single Positive-Edge-Triggered D-Type Flip-Flop With Clear and Preset 8-VSSOP -40 to 125; Manufacturer: Texas Instruments; Propagation Delay: 14.4ns; Max Supply Voltage: 5.5V; Min Supply Voltage: 1.65V; Frequency: 200MHz; Output Current: 32mA; Clock Edge Trigger Type: Positive Edge; Logic Function: D-Type,Flip-Flop; Number of Elements: 1; Turn-On Delay Time: 1.6ns; High Level Output Current: -32mA; Polarity: Non-Inverting; Number of Gates: 2; Quiescent Current: 10uA; Input Capacitance: 5pF; Input Type: SINGLE-ENDED; Supplier: Digikey; Supplier Part Number: 296-25554-1-ND; Manufacturer Part Number: SN74LVC1G74DCUR; RoHS: Yes; Category: Latches and Flip Flops; Stock: 78191; Pricing: 1=0,58, 10=0,492, 25=0,4596, 100=0,3676, 250=0,34136, 500=0,28886, 1000=0,22321 (USD); Mounting Technology: Surface Mount; Case/Package: VSSOP; Pins: 8; Min Operating Temperature: -40°C; Max Operating Temperature: 125°C; Packaging: Tape and Reel; Package Quantity: 3000; Number of Bits per Element: 1; Low Level Output Current: 32mA; Number of Circuits: 1; Number of Bits: 1; Series: 74LVC; Technology: CMOS; Radiation Hardening: No; Reach SVHC Compliant: No; Lead Free: Lead Free; RoHS Compliant: Yes; ComponentLink1URL: https://datasheet.ciiva.com/22666/1691929-22666409.pdf?src-supplier=Element14; ComponentLink1Description: https://datasheet.ciiva.com/22666/1691929-22666409.pdf?src-supplier=Element14; ComponentLink2URL: https://datasheet.ciiva.com/1855/sn74lvc1g74-1855488.pdf?src-supplier=Digikey; ComponentLink2Description: https://datasheet.ciiva.com/1855/sn74lvc1g74-1855488.pdf?src-supplier=Digikey; ComponentLink3URL: https://datasheet.ciiva.com/15091/getdatasheetpartid-292970-15091802.pdf?src-supplier=Verical; ComponentLink3Description: https://datasheet.ciiva.com/15091/getdatasheetpartid-292970-15091802.pdf?src-supplier=Verical; ComponentLink4URL: https://datasheet.ciiva.com/8055/1874765-8055609.pdf?src-supplier=Element14; ComponentLink4Description: https://datasheet.ciiva.com/8055/1874765-8055609.pdf?src-supplier=Element14; ComponentLink5URL: https://datasheet.ciiva.com/1855/sn74lvc1g74-1855487.pdf?src-supplier=Digikey; ComponentLink5Description: https://datasheet.ciiva.com/1855/sn74lvc1g74-1855487.pdf?src-supplier=Digikey; ComponentLink6URL: https://datasheet.ciiva.com/1855/sn74lvc1g74-1855489.pdf?src-supplier=Digikey; ComponentLink6Description: https://datasheet.ciiva.com/1855/sn74lvc1g74-1855489.pdf?src-supplier=Digikey; ComponentLink7URL: https://datasheet.ciiva.com/14314/sn74lvc1g74-14314670.pdf?src-supplier=Avnet; ComponentLink7Description: https://datasheet.ciiva.com/14314/sn74lvc1g74-14314670.pdf?src-supplier=Avnet
footprint TSSOP50P310X90-8N (TSSOP, 8-Leads, Body 2,00x2,30mm, Pitch 0,50mm, IPC Medium Density)
pins: 1 CLK, 2 D, 3 ~{Q}, 4 GND, 5 Q, 6 ~{CLR}, 7 ~{PRE}, 8 VCC

## SN74LVC1G97DBVR
designator IC?, comment SN74LVC1G97
IC CONFIG MULT-FUNC GATE SOT23-6; Manufacturer: Texas Instruments; Manufacturer Part Number: SN74LVC1G97DBVR; Min Supply Voltage: 1.65V; Max Supply Voltage: 5.5V; Logic Function: Multi Function; Quiescent Current: 10uA; Number of Inputs: 3; Propagation Delay: 6.3ns; Number of Circuits: 1; High Level Output Current: -32mA; Low Level Output Current: 32mA; Number of Input Lines: 2; Schmitt Trigger Input: Yes; Turn-On Delay Time: 6.1ns; Operating Supply Voltage: 5V; RoHS: Yes; Mount: Surface Mount; Case/Package: SOT-23; Number of Pins: 6; Weight: 0.000229oz; Contact Plating: Gold; Min Operating Temperature: -40°C; Max Operating Temperature: 125°C; Packaging: Tape and Reel; Package Quantity: 3000; Number of Gates: 1; Number of Output Lines: 1; Number of Bits: 1; Number of Outputs: 1; Number of Elements: 1; Output Current: 32mA; Max Output Current: 32mA; Termination: SMD/SMT; Length: 2.9mm; Height: 1.15mm; Width: 1.6mm; Radiation Hardening: No; Lead Free: Lead Free; REACH SVHC: No SVHC; ComponentLink1URL: https://datasheet.ciiva.com/34303/2017130-34303874.pdf?src-supplier=Jameco; ComponentLink1Description: https://datasheet.ciiva.com/34303/2017130-34303874.pdf?src-supplier=Jameco; ComponentLink2URL: https://datasheet.ciiva.com/6124/1768118-6124640.pdf?src-supplier=Farnell; ComponentLink2Description: https://datasheet.ciiva.com/6124/1768118-6124640.pdf?src-supplier=Farnell; ComponentLink3URL: https://datasheet.ciiva.com/1880/sn74lvc1g97-1880068.pdf?src-supplier=Digi-Key; ComponentLink3Description: https://datasheet.ciiva.com/1880/sn74lvc1g97-1880068.pdf?src-supplier=Digi-Key; ComponentLink4URL: https://datasheet.ciiva.com/1880/sn74lvc1g97-1880069.pdf?src-supplier=Digi-Key; ComponentLink4Description: https://datasheet.ciiva.com/1880/sn74lvc1g97-1880069.pdf?src-supplier=Digi-Key; ComponentLink5URL: https://datasheet.ciiva.com/7783/1768118-7783605.pdf?src-supplier=Element14; ComponentLink5Description: https://datasheet.ciiva.com/7783/1768118-7783605.pdf?src-supplier=Element14; ComponentLink6URL: https://datasheet.ciiva.com/46398/1885873-46398039.pdf?src-supplier=Element14; ComponentLink6Description: https://datasheet.ciiva.com/46398/1885873-46398039.pdf?src-supplier=Element14; ComponentLink7URL: https://datasheet.ciiva.com/26046/sn74lvc1g97-26046888.pdf?src-supplier=Avnet+Europe; ComponentLink7Description: https://datasheet.ciiva.com/26046/sn74lvc1g97-26046888.pdf?src-supplier=Avnet+Europe; ComponentLink8URL: https://datasheet.ciiva.com/1880/sn74lvc1g97-1880067.pdf?src-supplier=Digi-Key; ComponentLink8Description: https://datasheet.ciiva.com/1880/sn74lvc1g97-1880067.pdf?src-supplier=Digi-Key; ComponentLink9URL: https://datasheet.ciiva.com/7783/1768118-7783606.pdf?src-supplier=Element14; ComponentLink9Description: https://datasheet.ciiva.com/7783/1768118-7783606.pdf?src-supplier=Element14; ComponentLink10URL: https://datasheet.ciiva.com/46395/1885873-46395383.pdf?src-supplier=Element14; ComponentLink10Description: https://datasheet.ciiva.com/46395/1885873-46395383.pdf?src-supplier=Element14; ComponentLink11URL: https://datasheet.ciiva.com/14290/sn74lvc1g97-14290813.pdf?src-supplier=Avnet; ComponentLink11Description: https://datasheet.ciiva.com/14290/sn74lvc1g97-14290813.pdf?src-supplier=Avnet; ComponentLink12URL: https://datasheet.ciiva.com/48702/001075111-da-01-en-ic-config-m-sn74lvc1g97dbvr-sot-23-6-tid-48702378.pdf?src-supplier=Conrad; ComponentLink12Description: https://datasheet.ciiva.com/48702/001075111-da-01-en-ic-config-m-sn74lvc1g97dbvr-sot-23-6-tid-48702378.pdf?src-supplier=Conrad
footprint SOT23-6
footprint SC70-6 (SC70-6, Body 2.00x2.10mm, Pitch 0.65mm, IPC High Density)
pins: 1 In1, 2 GND, 3 In0, 4 Y, 5 VCC, 6 In2

## SN74LVC1G332DCKR
designator IC?
IC GATE OR 1CH 3-INP SC70-6; Supplier 1: Digi-Key; Supplier Part Number 1: 296-15943-1-ND
footprint DCK0006A_L (SOT23, 6-Leads, Body 2.15x1.4mm, Pitch 0.65mm, IPC High Density)
footprint DCK0006A_M (SOT23, 6-Leads, Body 2.15x1.4mm, Pitch 0.65mm, IPC Low Density)
footprint DCK0006A_N (SOT23, 6-Leads, Body 2.15x1.4mm, Pitch 0.65mm, IPC Medium Density)
part A pins: 1 A (in), 3 B (in), 4 Y (out), 6 C (in)
part B pins: 2 GND (power), 5 VCC (power)

## SN74LVC2G14DCKR
designator U?
IC INVERTER DUAL SHMT-T SC-70-6; Manufacturer: Texas Instruments; Propagation Delay: 4.3ns; Output Current: 32mA; Number of Circuits: 2; Max Supply Voltage: 5.5V; Min Supply Voltage: 1.65V; Number of Inputs: 1; Logic Function: Buffer,Inverter,Inverting,Schmitt Trigger; Quiescent Current: 10uA; High Level Output Current: -32mA; Turn-On Delay Time: 9.5ns; Input Type: SCHMITT TRIGGER; Supplier: Digikey; Supplier Part Number: 296-13011-1-ND; Manufacturer Part Number: SN74LVC2G14DCKR; RoHS: Yes; Category: Logic Gates; Stock: 1665; Pricing: 1=0,41, 10=0,312, 25=0,2816, 100=0,1945, 250=0,1638, 500=0,13308, 1000=0,10237 (USD); Mounting Technology: Surface Mount; Case/Package: SC; Pins: 6; Weight: 8.8E-05oz; Min Operating Temperature: -40°C; Max Operating Temperature: 125°C; Packaging: Tape and Reel; Number of Gates: 2; Number of Bits: 2; Package Quantity: 1; Max Output current: 32mA; Number of Elements: 2; Low Level Output Current: 32mA; Termination: SMD/SMT; Series: 74LVC; Technology: CMOS; Radiation Hardening: No; Reach SVHC Compliant: No; Lead Free: Lead Free; RoHS Compliant: Yes; ComponentLink1URL: https://datasheet.ciiva.com/6124/1768119-6124725.pdf?src-supplier=Farnell; ComponentLink1Description: https://datasheet.ciiva.com/6124/1768119-6124725.pdf?src-supplier=Farnell; ComponentLink2URL: https://datasheet.ciiva.com/15089/getdatasheetpartid-190000-15089351.pdf?src-supplier=Verical; ComponentLink2Description: https://datasheet.ciiva.com/15089/getdatasheetpartid-190000-15089351.pdf?src-supplier=Verical; ComponentLink3URL: https://datasheet.ciiva.com/7783/1768119-7783533.pdf?src-supplier=Element14; ComponentLink3Description: https://datasheet.ciiva.com/7783/1768119-7783533.pdf?src-supplier=Element14; ComponentLink4URL: https://datasheet.ciiva.com/7783/1768119-7783534.pdf?src-supplier=Element14; ComponentLink4Description: https://datasheet.ciiva.com/7783/1768119-7783534.pdf?src-supplier=Element14; ComponentLink5URL: https://datasheet.ciiva.com/46439/1863761-46439212.pdf?src-supplier=Element14; ComponentLink5Description: https://datasheet.ciiva.com/46439/1863761-46439212.pdf?src-supplier=Element14; ComponentLink6URL: https://datasheet.ciiva.com/46439/1853547-46439194.pdf?src-supplier=Element14; ComponentLink6Description: https://datasheet.ciiva.com/46439/1853547-46439194.pdf?src-supplier=Element14; ComponentLink7URL: https://datasheet.ciiva.com/1864/sn74lvc2g14-1864309.pdf?src-supplier=Digikey; ComponentLink7Description: https://datasheet.ciiva.com/1864/sn74lvc2g14-1864309.pdf?src-supplier=Digikey; ComponentLink8URL: https://datasheet.ciiva.com/1864/sn74lvc2g14-1864308.pdf?src-supplier=Digikey; ComponentLink8Description: https://datasheet.ciiva.com/1864/sn74lvc2g14-1864308.pdf?src-supplier=Digikey; ComponentLink9URL: https://datasheet.ciiva.com/1864/sn74lvc2g14-1864310.pdf?src-supplier=Digikey; ComponentLink9Description: https://datasheet.ciiva.com/1864/sn74lvc2g14-1864310.pdf?src-supplier=Digikey; ComponentLink10URL: https://datasheet.ciiva.com/14288/sn74lvc2g14-14288315.pdf?src-supplier=Avnet; ComponentLink10Description: https://datasheet.ciiva.com/14288/sn74lvc2g14-14288315.pdf?src-supplier=Avnet; ComponentLink11URL: https://datasheet.ciiva.com/48703/001074534-da-01-en-ic-inverter-sn74lvc2g14dckr-sc-70-6-tid-48703467.pdf?src-supplier=Conrad; ComponentLink11Description: https://datasheet.ciiva.com/48703/001074534-da-01-en-ic-inverter-sn74lvc2g14dckr-sc-70-6-tid-48703467.pdf?src-supplier=Conrad
footprint SOT65P210X110-6N (SOT23, 6-Leads, Body 2,00x2,10mm, Pitch 0,65mm, IPC Medium Density)
part A pins: 1 1A (in), 2 GND, 5 VCC, 6 1Y (out)
part B pins: 3 2A (in), 4 2Y (out)